# Altium integrated library LM317.IntLib: 1 symbol
Pins are listed as number, name and electrical type; pins without a type are passive.

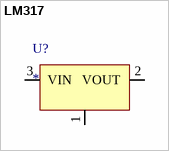
[diagram p0: symbol LM317]

## LM317
designator U?
footprint TO220
pins: 1 GND, 2 VOUT, 3 VIN